# EAGLE library part EFD30/15/9 (library inductor-Ferroxcube)
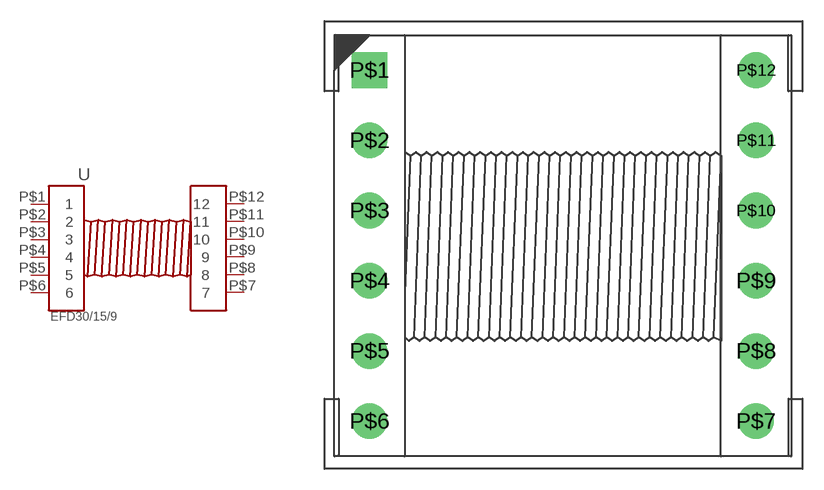
[diagram p0: symbol with the pads of EFD30/15/9; footprint EFD30/15/9]

Designator prefix -

## EFD30/15/9  [EFD30/15/9]
P$1  1  pas
P$2  2  pas
P$3  3  pas
P$4  4  pas
P$5  5  pas
P$6  6  pas
P$7  7  pas
P$8  8  pas
P$9  9  pas
P$10  10  pas
P$11  11  pas
P$12  12  pas

## Footprint EFD30/15/9 (pad centres in mm)
drill 1.4 pad 2.54 square: P$1 -13.33,11.67
drill 1.4 pad 2.54: P$2 -13.33,6.67; P$3 -13.33,1.67; P$4 -13.33,-3.33; P$5 -13.33,-8.33; P$6 -13.33,-13.33; P$7 14.17,-13.33; P$8 14.17,-8.33; P$9 14.17,-3.33; P$10 14.17,1.67; P$11 14.17,6.67; P$12 14.17,11.67